# Altium footprint library PIHER POTI.PcbLib: 1 footprints
Each footprint in its own frame and in the unit in brackets; x right, y up, seen from the top. Pads: shape width x height; smd on the part's side, far side on the other; paste and mask are expansions set on the pad; w line width, h text height; cw(c..) or ccw(c..) is an arc to the next point about the centre after c.
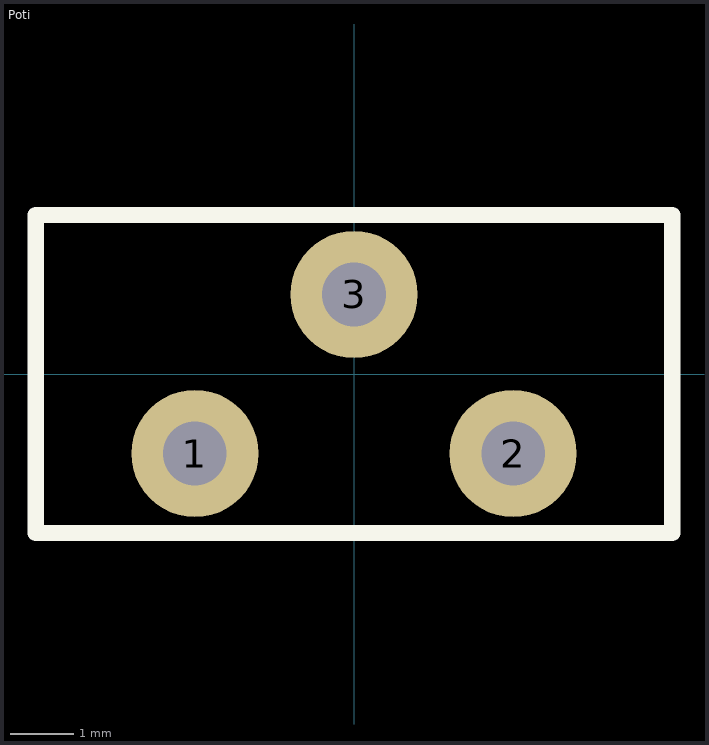
[diagram p0: the footprint, top view; thin cyan lines are the x and y axes]

## Poti [mm]
pads (3):
  round 2 hole 1: 1(-2.5,-1.25) 2(2.5,-1.25) 3(0,1.25)
Top Overlay:
  lines w0.254: -5,-2.5 -5,2.5 5,2.5 5,-2.5 -5,-2.5